# EAGLE library part W65C02S6TPG-14 (library W65C02S6TPG-14)
Microprocessors - MPU 8-bit Microprocessor Source: Datasheet <https://componentsearchengine.com/Datasheets/1/W65C02S6TPG-14.pdf>
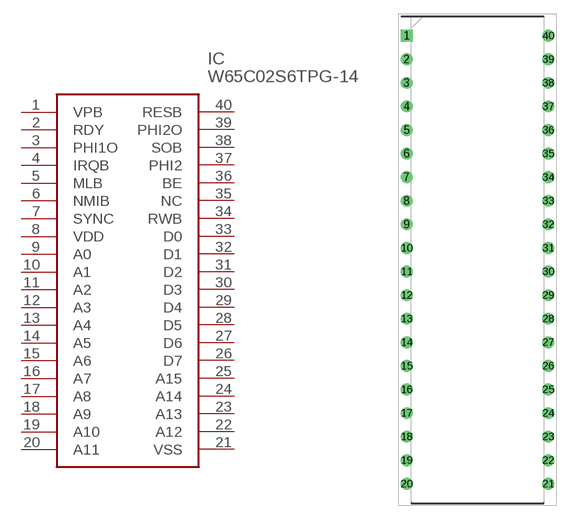
[diagram p0: symbol with the pads of DIP1524W56P254L5207H508Q40N; footprint DIP1524W56P254L5207H508Q40N]

Designator prefix IC

## W65C02S6TPG-14 (Description: Microprocessors - MPU 8-bit Microprocessor; Height: 5.08mm; Manufacturer_Name: Western Design Center (WDC); Manufacturer_Part_Number: W65C02S6TPG-14; Mouser_Part_Number: 955-W65C02S6TPG-14; Mouser_Price-Stock: https://www.mouser.co.uk/ProductDetail/Western-Design-Center-WDC/W65C02S6TPG-14?qs=opBjA1TV903lvWo9AEKH5w%3D%3D)  [DIP1524W56P254L5207H508Q40N]
1  VPB
2  RDY
3  PHI1O
4  IRQB  in
5  MLB
6  NMIB  in
7  SYNC  out
8  VDD  pwr
9  A0  out
10  A1  out
11  A2  out
12  A3  out
13  A4  out
14  A5  out
15  A6  out
16  A7  out
17  A8  out
18  A9  out
19  A10  out
20  A11  out
21  VSS  pwr
22  A12  out
23  A13  out
24  A14  out
25  A15  out
26  D7  out
27  D6  out
28  D5  out
29  D4  out
30  D3  out
31  D2  out
32  D1  out
33  D0  out
34  RWB  out
35  NC  nc
36  BE
37  PHI2
38  SOB
39  PHI2O
40  RESB  in

## Footprint DIP1524W56P254L5207H508Q40N (pad centres in mm)
40 PIN PLASTIC PACKAGE
drill 0.76 pad 1.16 square: 1 -7.62,24.13
drill 0.76 pad 1.16: 2 -7.62,21.59; 3 -7.62,19.05; 4 -7.62,16.51; 5 -7.62,13.97; 6 -7.62,11.43; 7 -7.62,8.89; 8 -7.62,6.35; 9 -7.62,3.81; 10 -7.62,1.27; 11 -7.62,-1.27; 12 -7.62,-3.81; 13 -7.62,-6.35; 14 -7.62,-8.89; 15 -7.62,-11.43; 16 -7.62,-13.97; 17 -7.62,-16.51; 18 -7.62,-19.05; 19 -7.62,-21.59; 20 -7.62,-24.13; 21 7.62,-24.13; 22 7.62,-21.59; 23 7.62,-19.05; 24 7.62,-16.51; 25 7.62,-13.97; 26 7.62,-11.43; 27 7.62,-8.89; 28 7.62,-6.35; 29 7.62,-3.81; 30 7.62,-1.27; 31 7.62,1.27; 32 7.62,3.81; 33 7.62,6.35; 34 7.62,8.89; 35 7.62,11.43; 36 7.62,13.97; 37 7.62,16.51; 38 7.62,19.05; 39 7.62,21.59; 40 7.62,24.13